# Altium schematic symbol library BM06B-SRSS-TB_LF__SN_.SCHLIB: 1 symbol
Pins are listed as number, name and electrical type; pins without a type are passive.

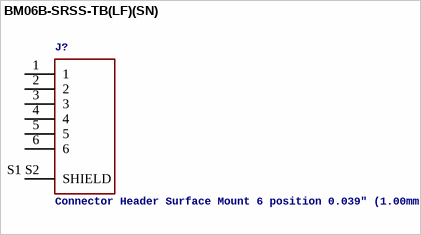
[diagram p0: symbol BM06B-SRSS-TB(LF)(SN)]

## BM06B-SRSS-TB(LF)(SN)
designator J?, comment Connector Header Surface Mount 6 position 0.039" (1.00mm)
GateName_1: G$1; SymbolName_1: BM06B-SRSS-TB(LF)(SN); Description: Connector Header Surface Mount 6 position 0.039 (1.00mm); MF: JST Sales; LibraryName: BM06B-SRSS-TB_LF__SN_; DeviceSetName: BM06B-SRSS-TB(LF)(SN); Package: None; MP: BM06B-SRSS-TB(LF)(SN); Purchase-URL: https://pricing.snapeda.com/search/part/BM06B-SRSS-TB(LF)(SN)/?ref=eda; Digi-Key_Part_Number: 455-1792-2-ND
footprint JST_BM06B-SRSS-TB(LF)(SN)
pins: 1, 2, 3, 4, 5, 6, S1 S2 SHIELD